# Altium schematic symbol library PCM2904.SchLib: 1 symbol
Pins are listed as number, name and electrical type; pins without a type are passive.

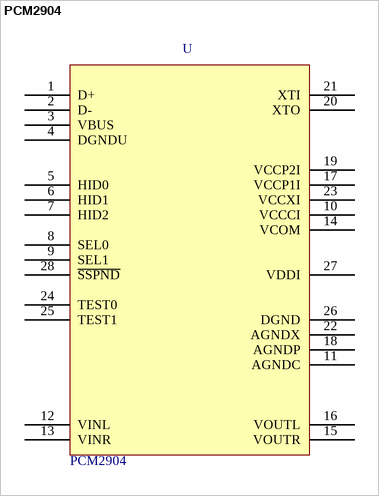
[diagram p0: symbol PCM2904]

## PCM2904
designator U, comment value PCM2904  (hidden comment: USB Audio IC)
Manufacturer: Texas Instruments; Manufacturer Code: PCM2904DBG4; Unit Price: 11,93 €; MOQ: 1; Farnell Code: 1207091; Comments: USB Audio IC
footprint TSSOP28
pins: 1 D+, 2 D-, 3 VBUS, 4 DGNDU, 5 HID0, 6 HID1, 7 HID2, 8 SEL0, 9 SEL1, 10 VCCCI, 11 AGNDC, 12 VINL, 13 VINR, 14 VCOM, 15 VOUTR, 16 VOUTL, 17 VCCP1I, 18 AGNDP, 19 VCCP2I, 20 XTO, 21 XTI, 22 AGNDX, 23 VCCXI, 24 TEST0, 25 TEST1, 26 DGND, 27 VDDI, 28 ~{SSPND}